# Altium schematic symbol library power_adapter.SchLib: 3 symbols
Pins are listed as number, name and electrical type; pins without a type are passive.

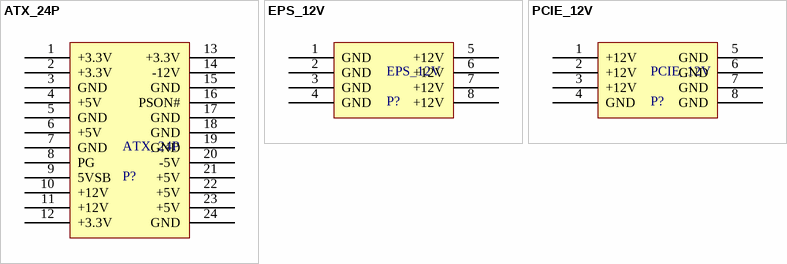
[diagram p0: symbols ATX_24P to PCIE_12V]

## ATX_24P
designator ATX_24P, comment P?
footprint ATX_24P
pins: 1 +3.3V, 2 +3.3V, 3 GND, 4 +5V, 5 GND, 6 +5V, 7 GND, 8 PG, 9 5VSB, 10 +12V, 11 +12V, 12 +3.3V, 13 +3.3V, 14 -12V, 15 GND, 16 PSON#, 17 GND, 18 GND, 19 GND, 20 -5V, 21 +5V, 22 +5V, 23 +5V, 24 GND

## EPS_12V
designator EPS_12V, comment P?
footprint EPS_12V
pins: 1 GND, 2 GND, 3 GND, 4 GND, 5 +12V, 6 +12V, 7 +12V, 8 +12V

## PCIE_12V
designator PCIE_12V, comment P?
footprint PCIE_12V
pins: 1 +12V, 2 +12V, 3 +12V, 4 GND, 5 GND, 6 GND, 7 GND, 8 GND